# Altium schematic symbol library RT0805DRD0712KL.SchLib: 1 symbol
Pins are listed as number, name and electrical type; pins without a type are passive.

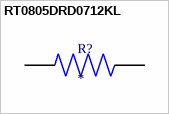
[diagram p0: symbol RT0805DRD0712KL]

## RT0805DRD0712KL
designator R?
RES SMD 12K OHM 0.5% 1/8W 0805; MF: {'manufacturer': u'Yageo'}; MP: RT0805DRD0712KL; Price: None; Value: *; Package: None; Availability: Unavailable
footprint RESC2012X60N
pins: 1, 2